# Altium footprint library HARWIN_S9141-45R.PcbLib: 1 footprints
Each footprint in its own frame and in the unit in brackets; x right, y up, seen from the top. Pads: shape width x height; smd on the part's side, far side on the other; paste and mask are expansions set on the pad; w line width, h text height; cw(c..) or ccw(c..) is an arc to the next point about the centre after c.
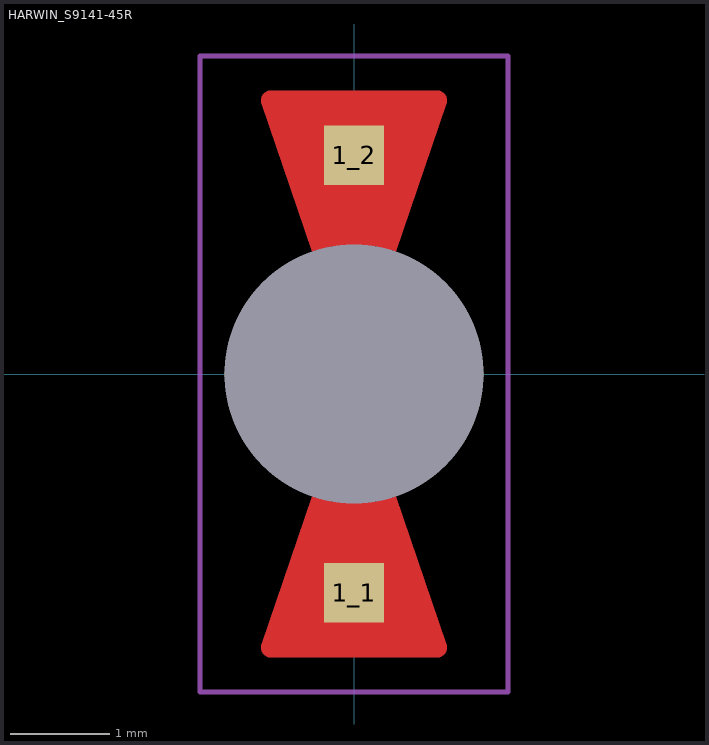
[diagram p0: the footprint, top view; thin cyan lines are the x and y axes]

## HARWIN_S9141-45R [mm]
height 4.3
pads (3):
  rect 0.6x0.6 smd paste-1 mask+0: 1_1(0,-2.2) 1_2(0,2.2)
  round 2.6 hole 2.6 unplated: ""(0,0)
Top Layer:
  region: 0.848,2.849 0.854,2.848 0.86,2.847 0.866,2.845 0.872,2.843 0.878,2.84 0.884,2.837 0.889,2.834 0.894,2.831 0.899,2.827 0.904,2.822 0.908,2.818 0.913,2.813 0.916,2.808 0.92,2.803 0.923,2.797 0.926,2.792 0.928,2.786 0.93,2.78 0.932,2.774 0.933,2.767 0.934,2.761 0.935,2.755 0.935,2.749 0.935,2.742 0.934,2.736 0.933,2.73 0.931,2.724 0.93,2.718 0.42,1.23 0.396,1.238 0.368,1.247 0.341,1.255 0.313,1.262 0.285,1.268 0.257,1.274 0.229,1.28 0.2,1.284 0.172,1.289 0.143,1.292 0.115,1.295 0.086,1.297 0.057,1.299 0.029,1.3 -0.029,1.3 -0.057,1.299 -0.086,1.297 -0.115,1.295 -0.143,1.292 -0.172,1.289 -0.2,1.284 -0.229,1.28 -0.257,1.274 -0.285,1.268 -0.313,1.262 -0.341,1.255 -0.368,1.247 -0.396,1.238 -0.42,1.23 -0.93,2.718 -0.931,2.724 -0.933,2.73 -0.934,2.736 -0.935,2.742 -0.935,2.749 -0.935,2.755 -0.934,2.761 -0.933,2.767 -0.932,2.774 -0.93,2.78 -0.928,2.786 -0.926,2.792 -0.923,2.797 -0.92,2.803 -0.916,2.808 -0.913,2.813 -0.908,2.818 -0.904,2.822 -0.899,2.827 -0.894,2.831 -0.889,2.834 -0.884,2.837 -0.878,2.84 -0.872,2.843 -0.866,2.845 -0.86,2.847 -0.854,2.848 -0.848,2.849 -0.841,2.85 0.841,2.85
  region: 0.93,-2.718 0.931,-2.724 0.933,-2.73 0.934,-2.736 0.935,-2.742 0.935,-2.749 0.935,-2.755 0.934,-2.761 0.933,-2.767 0.932,-2.774 0.93,-2.78 0.928,-2.786 0.926,-2.792 0.923,-2.797 0.92,-2.803 0.916,-2.808 0.913,-2.813 0.908,-2.818 0.904,-2.822 0.899,-2.827 0.894,-2.831 0.889,-2.834 0.884,-2.837 0.878,-2.84 0.872,-2.843 0.866,-2.845 0.86,-2.847 0.854,-2.848 0.848,-2.849 0.841,-2.85 -0.841,-2.85 -0.848,-2.849 -0.854,-2.848 -0.86,-2.847 -0.866,-2.845 -0.872,-2.843 -0.878,-2.84 -0.884,-2.837 -0.889,-2.834 -0.894,-2.831 -0.899,-2.827 -0.904,-2.822 -0.908,-2.818 -0.913,-2.813 -0.916,-2.808 -0.92,-2.803 -0.923,-2.797 -0.926,-2.792 -0.928,-2.786 -0.93,-2.78 -0.932,-2.774 -0.933,-2.767 -0.934,-2.761 -0.935,-2.755 -0.935,-2.749 -0.935,-2.742 -0.934,-2.736 -0.933,-2.73 -0.931,-2.724 -0.93,-2.718 -0.42,-1.23 -0.396,-1.238 -0.368,-1.247 -0.341,-1.255 -0.313,-1.262 -0.285,-1.268 -0.257,-1.274 -0.229,-1.28 -0.2,-1.284 -0.172,-1.289 -0.143,-1.292 -0.115,-1.295 -0.086,-1.297 -0.057,-1.299 -0.029,-1.3 0.029,-1.3 0.057,-1.299 0.086,-1.297 0.115,-1.295 0.143,-1.292 0.172,-1.289 0.2,-1.284 0.229,-1.28 0.257,-1.274 0.285,-1.268 0.313,-1.262 0.341,-1.255 0.368,-1.247 0.396,-1.238 0.42,-1.23
Top Paste:
  drawing of 2 lines, arcs and shapes, not listed
Top Solder:
  drawing of 2 lines, arcs and shapes, not listed
Mechanical 13:
  drawing of 184 lines, arcs and shapes, not listed
Mechanical 15:
  lines w0.05: -1.55,-3.2 -1.55,3.2 1.55,3.2 1.55,-3.2 -1.55,-3.2